# Altium schematic symbol library DMT35M4LFDF.SchLib: 1 symbol
Pins are listed as number, name and electrical type; pins without a type are passive.

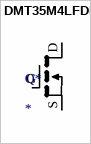
[diagram p0: symbol DMT35M4LFDF]

## DMT35M4LFDF
designator Q*
Manufacturer_Part_Number: DMT35M4LFDF
footprint U-DFN2020-6 (Type F)
pins: D, G, S